# EAGLE library part CAP_ARRAY_4 (library cap_array)
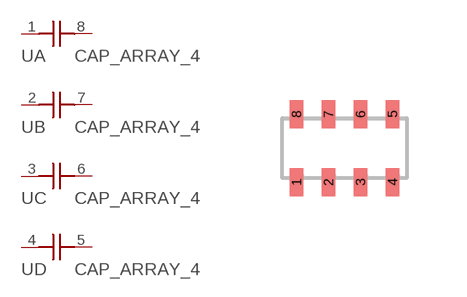
[diagram p0: symbol with the pads of 1206_ARRAY; footprint 1206_ARRAY]

Designator prefix -; gates A=CAP_ELEMENT B=CAP_ELEMENT C=CAP_ELEMENT D=CAP_ELEMENT

## CAP_ARRAY_41206_ARRAY  [1206_ARRAY]
1  A:1  pas
2  B:1  pas
3  C:1  pas
4  D:1  pas
5  D:2  pas
6  C:2  pas
7  B:2  pas
8  A:2  pas

## Footprint 1206_ARRAY (pad centres in mm)
smd 0.34 x 0.7: 1 -1.2,-0.85; 2 -0.4,-0.85; 3 0.4,-0.85; 4 1.2,-0.85; 5 1.2,0.85; 6 0.4,0.85; 7 -0.4,0.85; 8 -1.2,0.85